# EAGLE library part CONN,2X7,JTAG(MSP430) (library QuantumOptics)
Connector, 2x7 header for MSP430 JTAG
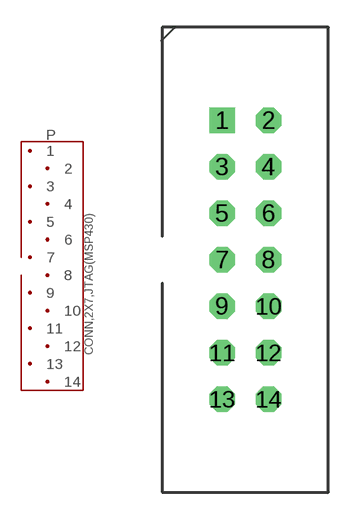
[diagram p209: symbol with the pads of CONN,2X7HDR,JTAG_MSP430; footprint CONN,2X7HDR,JTAG_MSP430]

Designator prefix P

## CONN,2X7,JTAG(MSP430)SULLINS_SBH11-PBPC_  [CONN,2X7HDR,JTAG_MSP430]
1  1
2  2
3  3
4  4
5  5
6  6
7  7
8  8
9  9
10  10
11  11
12  12
13  13
14  14

## Footprint CONN,2X7HDR,JTAG_MSP430 (pad centres in mm)
Connector, 2x7 header, Sullins SBH11-PBPC-D07-ST-BK for MSP430 JTAG, with shroud.
drill 0.889 square: 1 -1.27,7.62
drill 0.889 octagon: 2 1.27,7.62; 3 -1.27,5.08; 4 1.27,5.08; 5 -1.27,2.54; 6 1.27,2.54; 7 -1.27,0; 8 1.27,0; 9 -1.27,-2.54; 10 1.27,-2.54; 11 -1.27,-5.08; 12 1.27,-5.08; 13 -1.27,-7.62; 14 1.27,-7.62